# Altium schematic symbol library PESD5V0U1BA_115.SchLib: 1 symbol
Pins are listed as number, name and electrical type; pins without a type are passive.

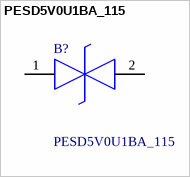
[diagram p0: symbol PESD5V0U1BA_115]

## PESD5V0U1BA_115
designator B?
PESDV0U1BA - Low capacitance bidirectional ESD protection diode; Manufacturer_Name: Nexperia; Manufacturer_Part_Number: PESD5V0U1BA,115; Geometry.Height: 1.1mm; Mouser Part Number: 771-PESD5V0U1BA115; Mouser Price/Stock: https://www.mouser.co.uk/ProductDetail/Nexperia/PESD5V0U1BA115?qs=LOCUfHb8d9tqw6h%2FD3HZHw%3D%3D; Datasheet Link: https://assets.nexperia.com/documents/data-sheet/PESD5V0U1BA.pdf
footprint PESD5V0U1BA115
pins: 1 K1, 2 K2